# Altium footprint library Rich Footprints.PcbLib: 155 footprints (part 8 of 10)
Each footprint in its own frame and in the unit in brackets; x right, y up, seen from the top. Pads: shape width x height; smd on the part's side, far side on the other; paste and mask are expansions set on the pad; w line width, h text height; cw(c..) or ccw(c..) is an arc to the next point about the centre after c.
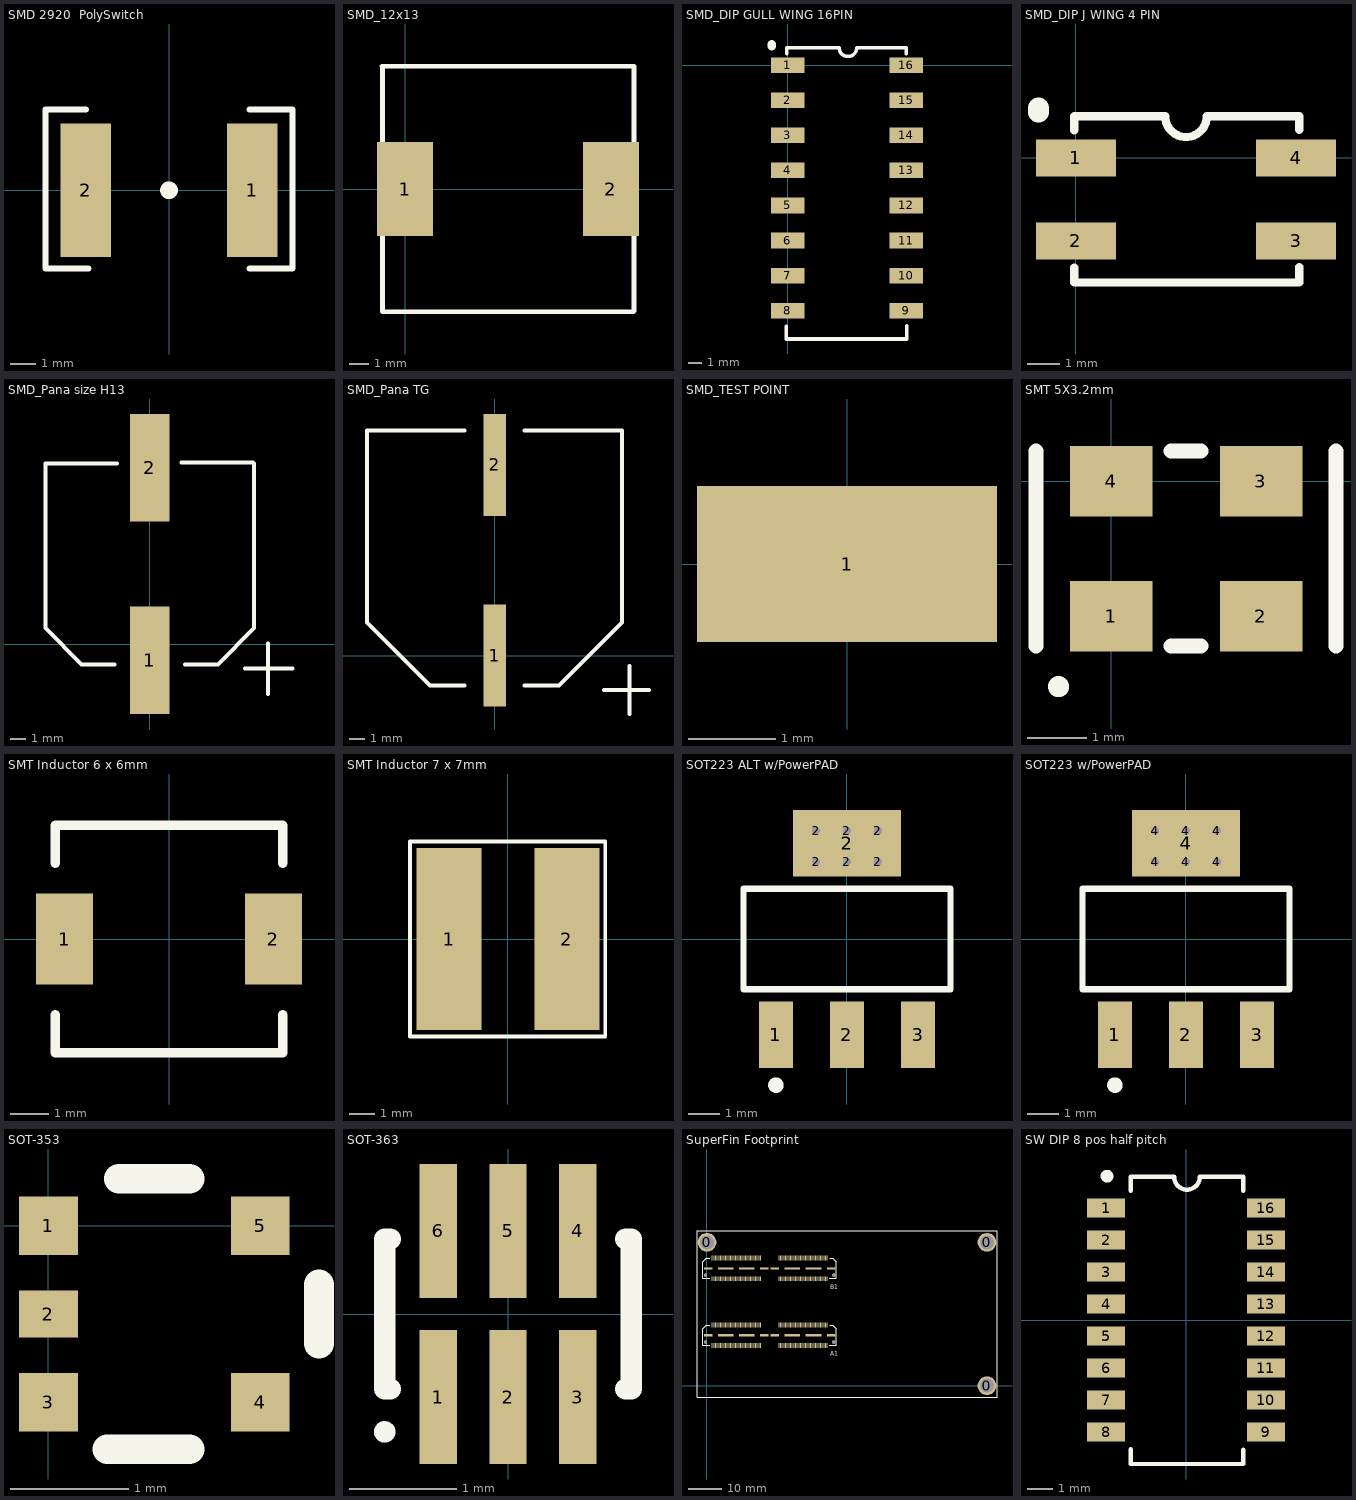
[diagram p7: the footprints below, top view; thin cyan lines are the x and y axes]

## SMD 2920  PolySwitch [mm] "Use with SMD polyswitch fuse"
pads (2):
  rect 2x5.3 smd: 1(3.3,0) 2(-3.3,0)
Top Overlay:
  circle w0.5: c0,0 r0.1
  lines w0.25: -3.3,3.2 -4.9,3.2 -4.9,-3.1 -3.2,-3.1 ; 3.2,-3.1 4.9,-3.1 4.9,3.2 3.2,3.2

## SMD_12x13 [mil] "For Vishay IHLP inductor"
pads (2):
  rect 115.98x195 smd: 1(0,0) 2(425.98,0)
Top Overlay:
  lines w10: -48,254 474,254 474,-253 ; -47,253 -47,-254 473,-254

## SMD_DIP GULL WING 16PIN [mm]
pads (16):
  rect 2.44x1.13 smd: 1(0,0) 2(0,-2.54) 3(0,-5.08) 4(0,-7.62) 5(0,-10.16) 6(0,-12.7) 7(0,-15.24) 8(0,-17.78) 9(8.611,-17.78) 10(8.611,-15.24) 11(8.611,-12.7) 12(8.611,-10.16) 13(8.611,-7.62) 14(8.611,-5.08) 15(8.611,-2.54) 16(8.611,0)
Top Overlay:
  lines w0.254: -0.101,-18.897 -0.101,-19.837 8.636,-19.837 8.636,-18.88 ; -0.05,0.839 -0.05,1.27 3.734,1.27 ccw(c4.369,1.27) 5.004,1.27 8.585,1.27 8.585,0.838
  lines w0.635: -1.143,1.397 -1.143,1.524

## SMD_DIP J WING 4 PIN [mm]
pads (4):
  rect 2.44x1.13 smd: 1(0,0) 2(0,-2.54) 3(6.731,-2.54) 4(6.731,0)
Top Overlay:
  lines w0.254: -0.05,-3.352 -0.05,-3.81 6.825,-3.81 6.825,-3.335 ; -0.05,0.839 -0.05,1.27 2.73,1.27 ccw(c3.365,1.27) 4,1.27 6.825,1.27 6.825,0.856
  lines w0.635: -1.143,1.397 -1.143,1.524

## SMD_Pana size H13 [mm] "Size H13"
pads (2):
  rect 2.5x6.8 smd: 1(0,-1.016) 2(0,11.176)
Top Overlay:
  lines w0.254: -2.23,-1.27 -4.318,-1.27 -6.604,1.016 -6.604,11.43 -2.07,11.43 ; 2,11.5 6.534,11.5 ; 2.23,-1.27 4.318,-1.27 6.604,1.016 6.604,11.43 ; 6.03,-1.538 9.03,-1.538 ; 7.476,-3.138 7.476,0.062

## SMD_Pana TG [mm] "Size J16"
pads (2):
  rect 1.5x6.8 smd: 1(0,0) 2(0,12.7)
Top Overlay:
  lines w0.254: -2,-2 -4.3,-2 -8.5,2.2 -8.5,15 -2,15 ; 2,-2 4.3,-2 8.5,2.2 8.5,15 2,15 ; 7.3,-2.3 10.3,-2.3 ; 9,-3.9 9,-0.7 ; -8.5,4.2 -8.5,4.2 ; 8.5,4.1 8.5,4.1

## SMD_TEST POINT [mil] "Keystone 5015"
pads (1):
  rect 135x70 smd: 1(0,0)

## SMT 5X3.2mm [mil]
pads (4):
  rect 55x47 smd: 1(0,-90) 2(100,-90) 3(100,0) 4(0,0)
Top Overlay:
  circle w12: c-35,-137 r1
  lines w10: -50,-110 -50,20 ; 40,-110 60,-110 ; 40,20 60,20 ; 150,-110 150,20

## SMT Inductor 6 x 6mm [mm] "EPCOS Series B82462A4"
pads (2):
  rect 1.5x2.4 smd: 1(-2.75,0) 2(2.75,0)
Top Overlay:
  lines w0.254: -3,-2 -3,-3 0,-3 3,-3 3,-2 ; -3,2 -3,3 3,3 3,2

## SMT Inductor 7 x 7mm [mil] "Coiltronics SD7030 series"
pads (2):
  rect 100x280 smd: 1(-90,0) 2(91,0)
Top Overlay:
  lines w6: -150,-150 150,-150 150,150 -150,150 -150,-150

## SOT223 ALT w/PowerPAD [mm] "Like SOT223 except tab conn to 2"
height 1.8
pads (10):
  rect 1.1x2.15 smd: 1(-2.3,-3.1) 2(0,-3.1) 3(2.3,-3.1)
  round 0.508 hole 0.254: 2(-1,2.5) 2(-1,3.5) 2(0,2.5) 2(0,3.5) 2(1,2.5) 2(1,3.5)
  rect 3.5x2.15 smd: 2(0,3.1)
Top Overlay:
  circle w0.25: c-2.3,-4.725 r0.125
  lines w0.2: -3.35,-1.625 3.35,-1.625 3.35,1.625 -3.35,1.625 -3.35,-1.625

## SOT223 w/PowerPAD [mm] "SOT-223/SC-73; 4 Leads; Body 6.7 x 7.3 mm, inc. leads (LxW max)"
height 1.8
pads (10):
  rect 1.1x2.15 smd: 1(-2.3,-3.1) 2(0,-3.1) 3(2.3,-3.1)
  round 0.508 hole 0.254: 4(-1,2.5) 4(-1,3.5) 4(0,2.5) 4(0,3.5) 4(1,2.5) 4(1,3.5)
  rect 3.5x2.15 smd: 4(0,3.1)
Top Overlay:
  circle w0.25: c-2.3,-4.725 r0.125
  lines w0.2: -3.35,-1.625 -3.35,1.625 3.35,1.625 3.35,-1.625 -3.35,-1.625

## SOT-353 [mm]
pads (5):
  rect 0.5x0.5 smd: 1(0,0) 3(0,-1.5) 4(1.8,-1.5) 5(1.8,0)
  rect 0.5x0.4 smd: 2(0,-0.75)
Top Overlay:
  lines w0.254: 0.5,-1.9 1.2,-1.9 ; 0.6,0.4 1.2,0.4 ; 2.3,-1 2.3,-0.5

## SOT-363 [mm] "SOT-363/SC-88; 6 Leads; Body 2.2 x 2.2 mm, inc. leads (LxW max)"
height 1
pads (6):
  rect 0.35x1.25 smd: 1(-0.65,-0.775) 2(0,-0.775) 3(0.65,-0.775) 4(0.65,0.775) 5(0,0.775) 6(-0.65,0.775)
Top Overlay:
  circle w0.1: c-1.15,-1.1 r0.05
  lines w0.2: -1.1,-0.7 -1.15,-0.7 -1.15,0.7 -1.1,0.7 ; 1.1,-0.7 1.15,-0.7 1.15,0.7 1.1,0.7

## SuperFin Footprint [mm] "SAMTEC QTH-060-01-L-D-A (x2)"
pads (263):
  round 5.6 hole 4.22: 0(0,43) 0(84,0) 0(84,43)
  round 1 hole 1.02 unplated: 0(38.04,13.08) 0(38.04,33.15) 1(-0.44,13.08) 1(-0.44,33.15)
  rect 0.3x1.45 smd paste+0 mask+0.05: A1(36.05,12.03) A2(36.05,18.21) A3(35.55,12.03) A4(35.55,18.21) A5(35.05,12.03) A6(35.05,18.21) A7(34.55,12.03) A8(34.55,18.21) A9(34.05,12.03) A10(34.05,18.21) A11(33.55,12.03) A12(33.55,18.21) A13(33.05,12.03) A14(33.05,18.21) A15(32.55,12.03) A16(32.55,18.21) A17(32.05,12.03) A18(32.05,18.21) A19(31.55,12.03) A20(31.55,18.21) A21(31.05,12.03) A22(31.05,18.21) A23(30.55,12.03) A24(30.55,18.21) A25(30.05,12.03) A26(30.05,18.21) A27(29.55,12.03) A28(29.55,18.21) A29(29.05,12.03) A30(29.05,18.21) A31(28.55,12.03) A32(28.55,18.21) A33(28.05,12.03) A34(28.05,18.21) A35(27.55,12.03) A36(27.55,18.21) A37(27.05,12.03) A38(27.05,18.21) A39(26.55,12.03) A40(26.55,18.21) A41(26.05,12.03) A42(26.05,18.21) A43(25.55,12.03) A44(25.55,18.21) A45(25.05,12.03) A46(25.05,18.21) A47(24.55,12.03) A48(24.55,18.21) A49(24.05,12.03) A50(24.05,18.21) A51(23.55,12.03) A52(23.55,18.21) A53(23.05,12.03) A54(23.05,18.21) A55(22.55,12.03) A56(22.55,18.21) A57(22.05,12.03) A58(22.05,18.21) A59(21.55,12.03) A60(21.55,18.21) A61(16.05,12.03) A62(16.05,18.21) A63(15.55,12.03) A64(15.55,18.21) A65(15.05,12.03) A66(15.05,18.21) A67(14.55,12.03) A68(14.55,18.21) A69(14.05,12.03) A70(14.05,18.21) A71(13.55,12.03) A72(13.55,18.21) A73(13.05,12.03) A74(13.05,18.21) A75(12.55,12.03) A76(12.55,18.21) A77(12.05,12.03) A78(12.05,18.21) A79(11.55,12.03) A80(11.55,18.21) A81(11.05,12.03) A82(11.05,18.21) A83(10.55,12.03) A84(10.55,18.21) A85(10.05,12.03) A86(10.05,18.21) A87(9.55,12.03) A88(9.55,18.21) A89(9.05,12.03) A90(9.05,18.21) A91(8.55,12.03) A92(8.55,18.21) A93(8.05,12.03) A94(8.05,18.21) A95(7.55,12.03) A96(7.55,18.21) A97(7.05,12.03) A98(7.05,18.21) A99(6.55,12.03) A100(6.55,18.21) A101(6.05,12.03) A102(6.05,18.21) A103(5.55,12.03) A104(5.55,18.21) A105(5.05,12.03) A106(5.05,18.21) A107(4.55,12.03) A108(4.55,18.21) A109(4.05,12.03) A110(4.05,18.21) A111(3.55,12.03) A112(3.55,18.21) A113(3.05,12.03) A114(3.05,18.21) A115(2.55,12.03) A116(2.55,18.21) A117(2.05,12.03) A118(2.05,18.21) A119(1.55,12.03) A120(1.55,18.21) B1(36.05,32.1) B2(36.05,38.28) B3(35.55,32.1) B4(35.55,38.28) B5(35.05,32.1) B6(35.05,38.28) B7(34.55,32.1) B8(34.55,38.28) B9(34.05,32.1) B10(34.05,38.28) B11(33.55,32.1) B12(33.55,38.28) B13(33.05,32.1) B14(33.05,38.28) B15(32.55,32.1) B16(32.55,38.28) B17(32.05,32.1) B18(32.05,38.28) B19(31.55,32.1) B20(31.55,38.28) B21(31.05,32.1) B22(31.05,38.28) B23(30.55,32.1) B24(30.55,38.28) B25(30.05,32.1) B26(30.05,38.28) B27(29.55,32.1) B28(29.55,38.28) B29(29.05,32.1) B30(29.05,38.28) B31(28.55,32.1) B32(28.55,38.28) B33(28.05,32.1) B34(28.05,38.28) B35(27.55,32.1) B36(27.55,38.28) B37(27.05,32.1) B38(27.05,38.28) B39(26.55,32.1) B40(26.55,38.28) B41(26.05,32.1) B42(26.05,38.28) B43(25.55,32.1) B44(25.55,38.28) B45(25.05,32.1) B46(25.05,38.28) B47(24.55,32.1) B48(24.55,38.28) B49(24.05,32.1) B50(24.05,38.28) B51(23.55,32.1) B52(23.55,38.28) B53(23.05,32.1) B54(23.05,38.28) B55(22.55,32.1) B56(22.55,38.28) B57(22.05,32.1) B58(22.05,38.28) B59(21.55,32.1) B60(21.55,38.28) B61(16.05,32.1) B62(16.05,38.28) B63(15.55,32.1) B64(15.55,38.28) B65(15.05,32.1) B66(15.05,38.28) B67(14.55,32.1) B68(14.55,38.28) B69(14.05,32.1) B70(14.05,38.28) B71(13.55,32.1) B72(13.55,38.28) B73(13.05,32.1) B74(13.05,38.28) B75(12.55,32.1) B76(12.55,38.28) B77(12.05,32.1) B78(12.05,38.28) B79(11.55,32.1) B80(11.55,38.28) B81(11.05,32.1) B82(11.05,38.28) B83(10.55,32.1) B84(10.55,38.28) B85(10.05,32.1) B86(10.05,38.28) B87(9.55,32.1) B88(9.55,38.28) B89(9.05,32.1) B90(9.05,38.28) B91(8.55,32.1) B92(8.55,38.28) B93(8.05,32.1) B94(8.05,38.28) B95(7.55,32.1) B96(7.55,38.28) B97(7.05,32.1) B98(7.05,38.28) B99(6.55,32.1) B100(6.55,38.28) B101(6.05,32.1) B102(6.05,38.28) B103(5.55,32.1) B104(5.55,38.28) B105(5.05,32.1) B106(5.05,38.28) B107(4.55,32.1) B108(4.55,38.28) B109(4.05,32.1) B110(4.05,38.28) B111(3.55,32.1) B112(3.55,38.28) B113(3.05,32.1) B114(3.05,38.28) B115(2.55,32.1) B116(2.55,38.28) B117(2.05,32.1) B118(2.05,38.28) B119(1.55,32.1) B120(1.55,38.28)
  rect 2.54x0.64 smd: A121(20.355,15.12) A121(37.245,15.12) A122(0.355,15.12) A122(17.245,15.12) B121(20.355,35.19) B121(37.245,35.19) B122(0.355,35.19) B122(17.245,35.19)
  rect 4.7x0.64 smd: A121(25.625,15.12) A121(31.975,15.12) A122(5.625,15.12) A122(11.975,15.12) B121(25.625,35.19) B121(31.975,35.19) B122(5.625,35.19) B122(11.975,35.19)
Top Overlay:
  lines w0.25: 0.9,12.13 -1.2,12.13 -1.2,17.13 -0.2,18.13 0.9,18.13 ; 0.9,32.2 -1.2,32.2 -1.2,37.2 -0.2,38.2 0.9,38.2 ; 36.7,12.13 38.8,12.13 38.8,17.13 37.8,18.13 36.8,18.13 ; 36.7,32.2 38.8,32.2 38.8,37.2 37.8,38.2 36.8,38.2 ; -3,-3.5 -3,46.5 87,46.5 87,-3.5 -3,-3.5
  text "A1" at 37,9 h1.27
  text "B1" at 37,29 h1.27

## SW DIP 8 pos half pitch [mil] "Grayhill 97C08ST, 8 SPST switch, surface mount"
height 59
pads (16):
  rect 60x30 smd: 1(-125,175) 2(-125,125) 3(-125,75) 4(-125,25) 5(-125,-25) 6(-125,-75) 7(-125,-125) 8(-125,-175) 9(125,-175) 10(125,-125) 11(125,-75) 12(125,-25) 13(125,25) 14(125,75) 15(125,125) 16(125,175)
Top Overlay:
  circle w10: c-123.5,225 r5
  lines w7: -86.5,-202 -86.5,-225 89.5,-225 89.5,-207 89.5,-203 ; -86.5,202 -86.5,224 -18.5,224 ccw(c1.5,224) 21.5,224 89.5,224 89.5,202